# Altium integrated library Analog Devices Data Converters Analog-to-Digital Converters.IntLib: 2404 symbols (part 177 of 346)
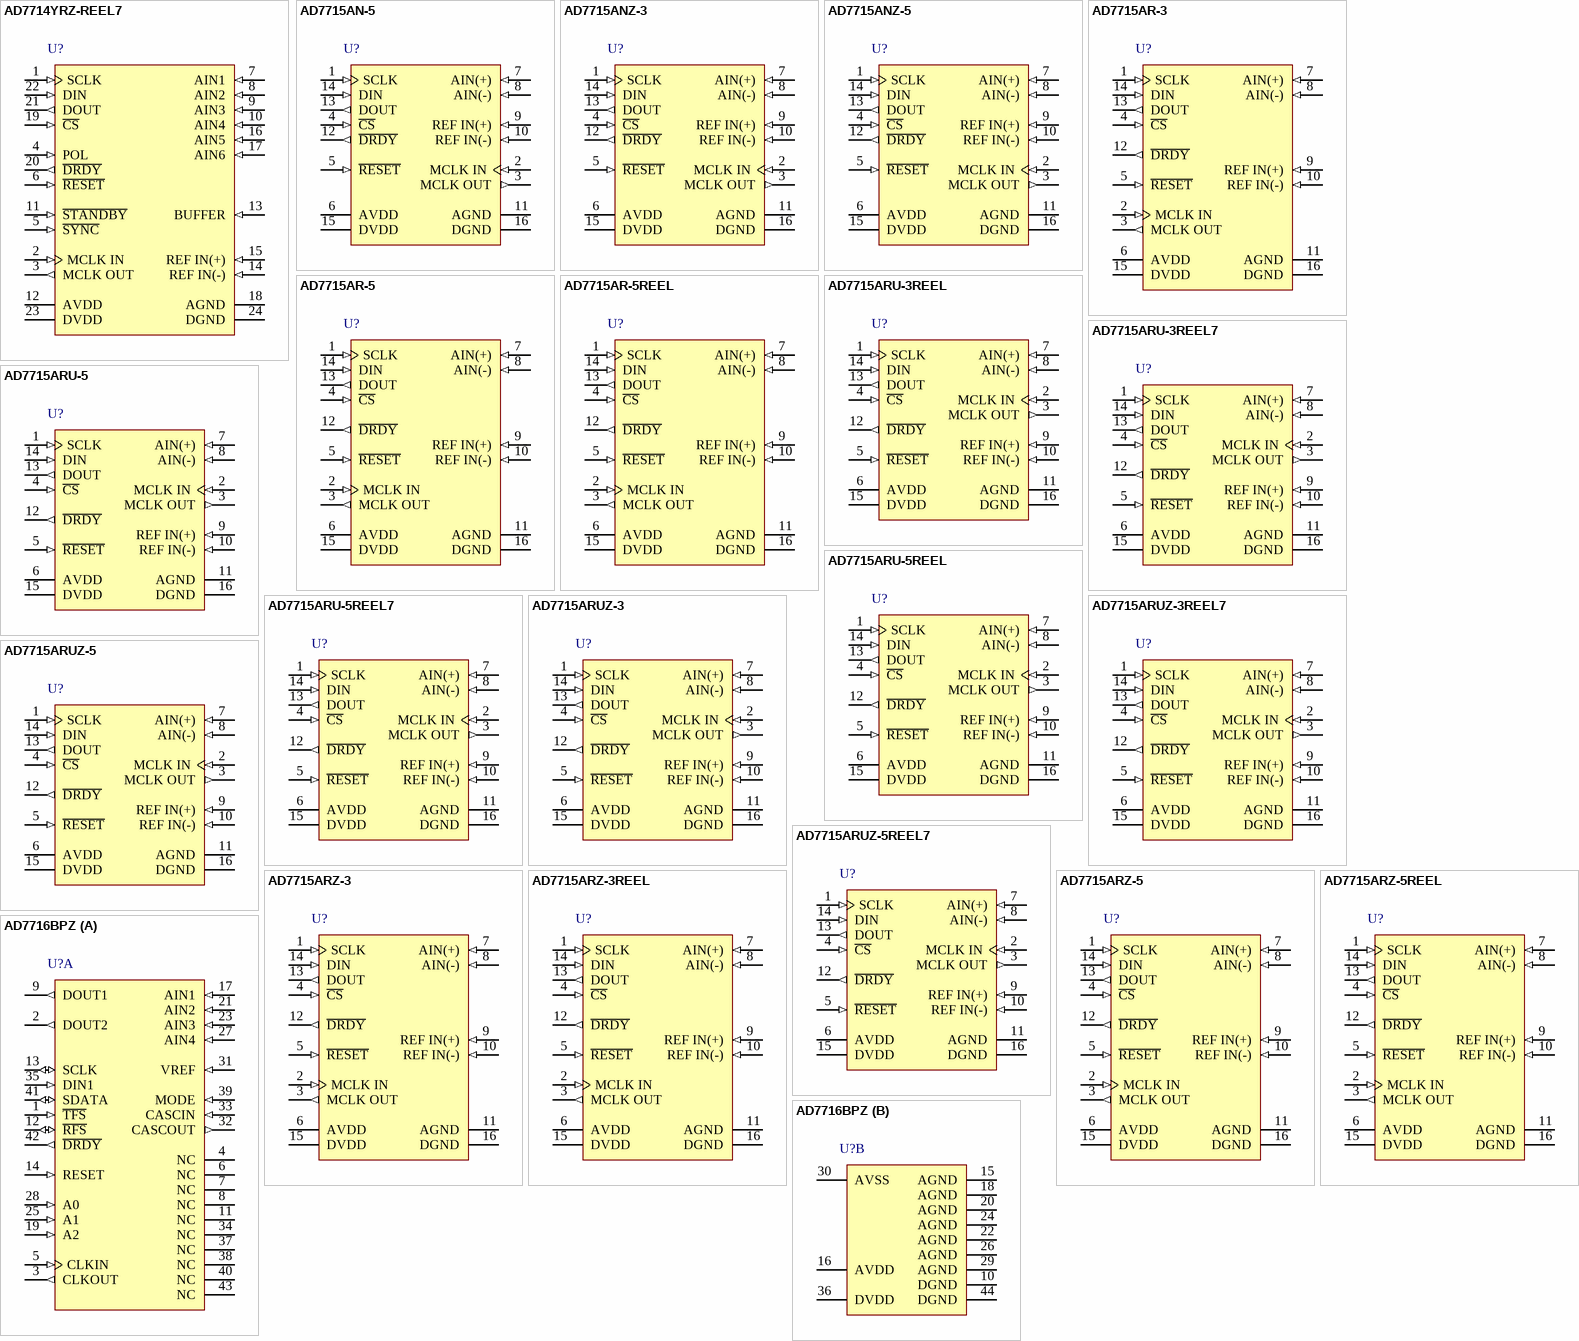
[diagram p251: symbols AD7714YRZ-REEL7 to AD7716BPZ]

## AD7715ARZ-5
designator U?
Single 16-Bit Sigma-Delta Analog-to-Digital Converter with Serial, SPI Interface, 450 uA, 5 V, 500SPS, 0 to +70 degC, RW-16, Pb-Free, Tube; Generic Part Number: AD7715; Manufacturer: Analog Devices; PartNumber: AD7715ARZ-5; Resolution (Bits): 16; Channels: 1; Throughput Rate (SPS): 500; Interface: Ser, SPI; DatasheetVersion: Rev.D; PackageVersion: 032707-B; PackageReference: RW-16; PackageDescription: 16-Lead Standard Small Outline Package [SOIC_W]; Supplier 1: Digi-Key; Supplier Part Number 1: AD7715ARZ-5-ND; Supplier 2: Farnell; Supplier Part Number 2: 1651252; Supplier 3: Newark; Supplier Part Number 3: 19M8850; Supplier 4: Mouser; Supplier Part Number 4: 584-AD7715ARZ-5; RoHS: Y; Packing: Tube; Mounting Technology: Surface Mount; Code_JEDEC: MS-013-AA; Code_IPC: SOIC127P1030-16; ComponentLink1Description: Manufacturer URL; ComponentLink1URL: http://www.analog.com/en/index.html; ComponentLink2Description: Datasheet; ComponentLink2URL: http://www.analog.com/static/imported-files/data_sheets/AD7715.pdf; ComponentLink3Description: Package Specification; ComponentLink3URL: http://www.analog.com/static/imported-files/packages/PKG_PDF/SOIC_WIDE%20%28RW%29/RW_16.pdf; ComponentLink4Description: Product URL; ComponentLink4URL: http://www.analog.com/en/analog-to-digital-converters/ad-converters/ad7715/products/product.html
footprint RW-16_N (SOIC, 16-Leads, Body 10.3x7.5mm, Pitch 1.27mm, IPC Medium Density)
footprint RW-16_L (SOIC, 16-Leads, Body 10.3x7.5mm, Pitch 1.27mm, IPC High Density)
footprint RW-16_M (SOIC, 16-Leads, Body 10.3x7.5mm, Pitch 1.27mm, IPC Low Density)
pins: 1 SCLK (in) "Serial Clock. Logic input. An external serial clock is applied to this input to access serial data from the AD7715. This serial clock can be a continuous clock with all data transmitted in a continuous train of pulses. (See Datasheet)", 2 MCLK IN (in) "Master Clock Signal for the Device. This can be provided in the form of a crystal/resonator or external clock. A crystal/resonator can be tied across the MCLK IN and MCLK OUT pins. Alternatively, the MCLK IN pin can be (See Datasheet)", 3 MCLK OUT (out) "When the master clock for the device is a crystal/resonator, the crystal/resonator is connected between MCLK IN and MCLK OUT. If an external clock is applied to MCLK IN, MCLK OUT provides an inverted clock signal. This clock (See Datasheet)", 4 ~{CS} (in) "Chip Select. Active low logic input used to select the AD7715. With this input hardwired low, the AD7715 can operate in its three-wire interface mode with SCLK, DIN, and DOUT used to interface to the device. C\S\ can be used (See Datasheet)", 5 ~{RESET} (in) "Logic Input. Active low input which resets the control logic, interface logic, calibration coefficients, digital filter, and analog modulator of the part to power-on status.", 6 AVDD (power) "Analog Positive Supply Voltage, 3.3 V nominal (AD7715-3) or 5 V nominal (AD7715-5).", 7 AIN(+) (in) "Analog Input. Positive input of the programmable gain differential analog input to the AD7715.", 8 AIN(-) (in) "Analog Input. Negative input of the programmable gain differential analog input to the AD7715.", 9 REF IN(+) (in) "Reference Input. Positive input of the differential reference input to the AD7715. The reference input is differential with the provision that REF IN(+) must be greater than REF IN(-). REF IN(+) can lie anywhere between AVDD (See Datasheet)", 10 REF IN(-) (in) "Reference Input. Negative input of the differential reference input to the AD7715. The REF IN(-) can lie anywhere between AVDD and AGND provided REF IN(+) is greater than REF IN(-).", 11 AGND (power) "Ground Reference Point for Analog Circuitry. For correct operation of the AD7715, no voltage on any of the other pins should go more than 30 mV negative with respect to AGND.", 12 ~{DRDY} (out) "Logic Output. A logic low on this output indicates that a new output word is available from the AD7715 data register. The D\R\D\Y\ pin returns high upon completion of a read operation of a full output word. If no data read (See Datasheet)", 13 DOUT (out) "Serial data output with serial data being read from the output shift register on the part. This output shift register can contain information from the setup register, communications register or data register depending on the (See Datasheet)", 14 DIN (in) "Serial data input with serial data being written to the input shift register on the part. Data from this input shift register is transferred to the setup register or communications register depending on the register (See Datasheet)", 15 DVDD (power) "Digital Supply Voltage, 3.3 V or 5 V nominal.", 16 DGND (power) "Ground reference point for digital circuitry."

## AD7715ARZ-5REEL
designator U?
Single 16-Bit Sigma-Delta Analog-to-Digital Converter with Serial, SPI Interface, 450 uA, 5 V, 500SPS, 0 to +70 degC, RW-16, Pb-Free, Reel; Generic Part Number: AD7715; Manufacturer: Analog Devices; PartNumber: AD7715ARZ-5REEL; Resolution (Bits): 16; Channels: 1; Throughput Rate (SPS): 500; Interface: Ser, SPI; DatasheetVersion: Rev.D; PackageVersion: 032707-B; PackageReference: RW-16; PackageDescription: 16-Lead Standard Small Outline Package [SOIC_W]; Supplier 1: Digi-Key; Supplier Part Number 1: AD7715ARZ-5REEL-ND; Supplier 2: Mouser; Supplier Part Number 2: 584-AD7715ARZ-5R; RoHS: Y; Packing: Reel; Mounting Technology: Surface Mount; Code_JEDEC: MS-013-AA; Code_IPC: SOIC127P1030-16; ComponentLink1Description: Manufacturer URL; ComponentLink1URL: http://www.analog.com/en/index.html; ComponentLink2Description: Datasheet; ComponentLink2URL: http://www.analog.com/static/imported-files/data_sheets/AD7715.pdf; ComponentLink3Description: Package Specification; ComponentLink3URL: http://www.analog.com/static/imported-files/packages/PKG_PDF/SOIC_WIDE%20%28RW%29/RW_16.pdf; ComponentLink4Description: Product URL; ComponentLink4URL: http://www.analog.com/en/analog-to-digital-converters/ad-converters/ad7715/products/product.html
footprint RW-16_N (SOIC, 16-Leads, Body 10.3x7.5mm, Pitch 1.27mm, IPC Medium Density)
footprint RW-16_L (SOIC, 16-Leads, Body 10.3x7.5mm, Pitch 1.27mm, IPC High Density)
footprint RW-16_M (SOIC, 16-Leads, Body 10.3x7.5mm, Pitch 1.27mm, IPC Low Density)
pins: 1 SCLK (in) "Serial Clock. Logic input. An external serial clock is applied to this input to access serial data from the AD7715. This serial clock can be a continuous clock with all data transmitted in a continuous train of pulses. (See Datasheet)", 2 MCLK IN (in) "Master Clock Signal for the Device. This can be provided in the form of a crystal/resonator or external clock. A crystal/resonator can be tied across the MCLK IN and MCLK OUT pins. Alternatively, the MCLK IN pin can be (See Datasheet)", 3 MCLK OUT (out) "When the master clock for the device is a crystal/resonator, the crystal/resonator is connected between MCLK IN and MCLK OUT. If an external clock is applied to MCLK IN, MCLK OUT provides an inverted clock signal. This clock (See Datasheet)", 4 ~{CS} (in) "Chip Select. Active low logic input used to select the AD7715. With this input hardwired low, the AD7715 can operate in its three-wire interface mode with SCLK, DIN, and DOUT used to interface to the device. C\S\ can be used (See Datasheet)", 5 ~{RESET} (in) "Logic Input. Active low input which resets the control logic, interface logic, calibration coefficients, digital filter, and analog modulator of the part to power-on status.", 6 AVDD (power) "Analog Positive Supply Voltage, 3.3 V nominal (AD7715-3) or 5 V nominal (AD7715-5).", 7 AIN(+) (in) "Analog Input. Positive input of the programmable gain differential analog input to the AD7715.", 8 AIN(-) (in) "Analog Input. Negative input of the programmable gain differential analog input to the AD7715.", 9 REF IN(+) (in) "Reference Input. Positive input of the differential reference input to the AD7715. The reference input is differential with the provision that REF IN(+) must be greater than REF IN(-). REF IN(+) can lie anywhere between AVDD (See Datasheet)", 10 REF IN(-) (in) "Reference Input. Negative input of the differential reference input to the AD7715. The REF IN(-) can lie anywhere between AVDD and AGND provided REF IN(+) is greater than REF IN(-).", 11 AGND (power) "Ground Reference Point for Analog Circuitry. For correct operation of the AD7715, no voltage on any of the other pins should go more than 30 mV negative with respect to AGND.", 12 ~{DRDY} (out) "Logic Output. A logic low on this output indicates that a new output word is available from the AD7715 data register. The D\R\D\Y\ pin returns high upon completion of a read operation of a full output word. If no data read (See Datasheet)", 13 DOUT (out) "Serial data output with serial data being read from the output shift register on the part. This output shift register can contain information from the setup register, communications register or data register depending on the (See Datasheet)", 14 DIN (in) "Serial data input with serial data being written to the input shift register on the part. Data from this input shift register is transferred to the setup register or communications register depending on the register (See Datasheet)", 15 DVDD (power) "Digital Supply Voltage, 3.3 V or 5 V nominal.", 16 DGND (power) "Ground reference point for digital circuitry."

## AD7716BPZ
designator U?
LC2MOS 22-Bit Data Acquisition System, 2.2KSPS, -40 to +85 degC, P-44A, Pb-Free, Tube; Generic Part Number: AD7716; Manufacturer: Analog Devices; PartNumber: AD7716BPZ; Resolution (Bits): 22; Channels: 4; Throughput Rate (SPS): 2.2K; Interface: Ser; DatasheetVersion: Rev.A; PackageVersion: 2003; PackageReference: P-44A; PackageDescription: 44-Lead Plastic Leaded Chip Carrier [PLCC]; Supplier 1: Digi-Key; Supplier Part Number 1: AD7716BPZ-ND; Supplier 2: Newark; Supplier Part Number 2: 12M8929; Supplier 3: Mouser; Supplier Part Number 3: 584-AD7716BPZ; RoHS: Y; Packing: Tube; Mounting Technology: Surface Mount; Code_JEDEC: MO-047-AC; Code_IPC: PLCC-44; ComponentLink1Description: Manufacturer URL; ComponentLink1URL: http://www.analog.com/en/index.html; ComponentLink2Description: Datasheet; ComponentLink2URL: http://www.analog.com/static/imported-files/data_sheets/AD7716.pdf; ComponentLink3Description: Package Specification; ComponentLink3URL: http://www.analog.com/static/imported-files/packages/533756178731793364534243243792136664964P44A.pdf; ComponentLink4Description: Product URL; ComponentLink4URL: http://www.analog.com/en/analog-to-digital-converters/ad-converters/ad7716/products/product.html
footprint P-44A_N (Leaded Chip Carrier, 44-Leads, Body 16.6x16.6mm, Pitch 1.27mm, IPC Medium Density)
footprint P-44A_L (Leaded Chip Carrier, 44-Leads, Body 16.6x16.6mm, Pitch 1.27mm, IPC High Density)
footprint P-44A_M (Leaded Chip Carrier, 44-Leads, Body 16.6x16.6mm, Pitch 1.27mm, IPC Low Density)
part A pins: 1 ~{TFS} (in) "Transmit Frame Sync input for programming the on-chip Control Register.", 2 DOUT2 (out) "Digital Outputs. These two digital outputs can be programmed from the on-chip Control Register. They can be used to control calibration signals at the front end.", 3 CLKOUT (out) "Clock Output which is used to generate an internal master clock by connecting a crystal between CLKOUT and CLKIN. If an external clock is used then CLKOUT is not connected.", 4 NC "No connect", 5 CLKIN (in) "Clock Input for External Clock.", 6 NC "No connect", 7 NC "No connect", 8 NC "No connect", 9 DOUT1 (out) "Digital Outputs. These two digital outputs can be programmed from the on-chip Control Register. They can be used to control calibration signals at the front end.", 11 NC "No connect", 12 ~{RFS} (io) "Receive Frame Synchronization signal for the serial output data stream. This can be an input or output depending on the interface mode.", 13 SCLK (io) "Serial Clock Input/Output. The SCLK pin is configured as an input or output, depending on the state of the Mode pin.", 14 RESET (in) "A high pulse on this input pin synchronizes the sampling point on the four input channels. It can be used in a multichannel system to ensure simultaneous sampling. This also resets the digital interface to a known state.", 17 AIN1 (in) "Analog Input Pins. The analog input range is +/-2.5 V.", 19 A2 (in) "The three address input pins, A0, A1 and A2 give the device a unique address. This information is contained in the output data stream from the device.", 21 AIN2 (in) "Analog Input Pins. The analog input range is +/-2.5 V.", 23 AIN3 (in) "Analog Input Pins. The analog input range is +/-2.5 V.", 25 A1 (in) "The three address input pins, A0, A1 and A2 give the device a unique address. This information is contained in the output data stream from the device.", 27 AIN4 (in) "Analog Input Pins. The analog input range is +/-2.5 V.", 28 A0 (in) "The three address input pins, A0, A1 and A2 give the device a unique address. This information is contained in the output data stream from the device.", 31 VREF (in) "Reference Input, Nominally 2.5 V.", 32 CASCOUT (out) "Digital output which goes high at the end of a complete 4-channel data transfer. This can be connected to the CASCIN of the next device in a multichannel system to ensure proper control of the data transfer.", 33 CASCIN (in) "This is an active-high, level-triggered digital input which is used to enable the output data stream. This input may be used to cascade several devices in a multichannel system.", 34 NC "No connect", 35 DIN1 (in) "Digital Data Input. This is contained in the digital data stream sent from the device.", 37 NC "No connect", 38 NC "No connect", 39 MODE (in) "This digital input determines the device interface mode. If it is hardwired low, then the Master Mode interface is enabled whereas if it is high, the Slave Mode interface is enabled.", 40 NC "No connect", 41 SDATA (io) "Serial Data Input/Output Pin.", 42 ~{DRDY} (out) "Data Ready Output. A falling edge indicates that a new word is available for transmission. It will return high when 4, 32-bit words have been transmitted. It also goes high for one clock cycle, when a new word is being (See Datasheet)", 43 NC "No connect"
part B pins: 10 DGND (power) "Digital Ground. Ground return for digital circuitry.", 15 AGND (power) "Analog Ground. Ground reference for analog circuitry.", 16 AVDD (power) "Analog Positive Supply, +5 V Nominal. This supplies +ve power to the analog modulators. AVDD & DVDD must be tied together externally.", 18 AGND (power) "Analog Ground. Ground reference for analog circuitry.", 20 AGND (power) "Analog Ground. Ground reference for analog circuitry.", 22 AGND (power) "Analog Ground. Ground reference for analog circuitry.", 24 AGND (power) "Analog Ground. Ground reference for analog circuitry.", 26 AGND (power) "Analog Ground. Ground reference for analog circuitry.", 29 AGND (power) "Analog Ground. Ground reference for analog circuitry.", 30 AVSS (power) "Analog Negative Supply, -5 V nominal. This supplies -ve power to the analog modulators.", 36 DVDD (power) "Digital Positive Supply, +5 V Nominal. This supplies +ve power to the digital filter and input/output registers.", 44 DGND (power) "Digital Ground. Ground return for digital circuitry."

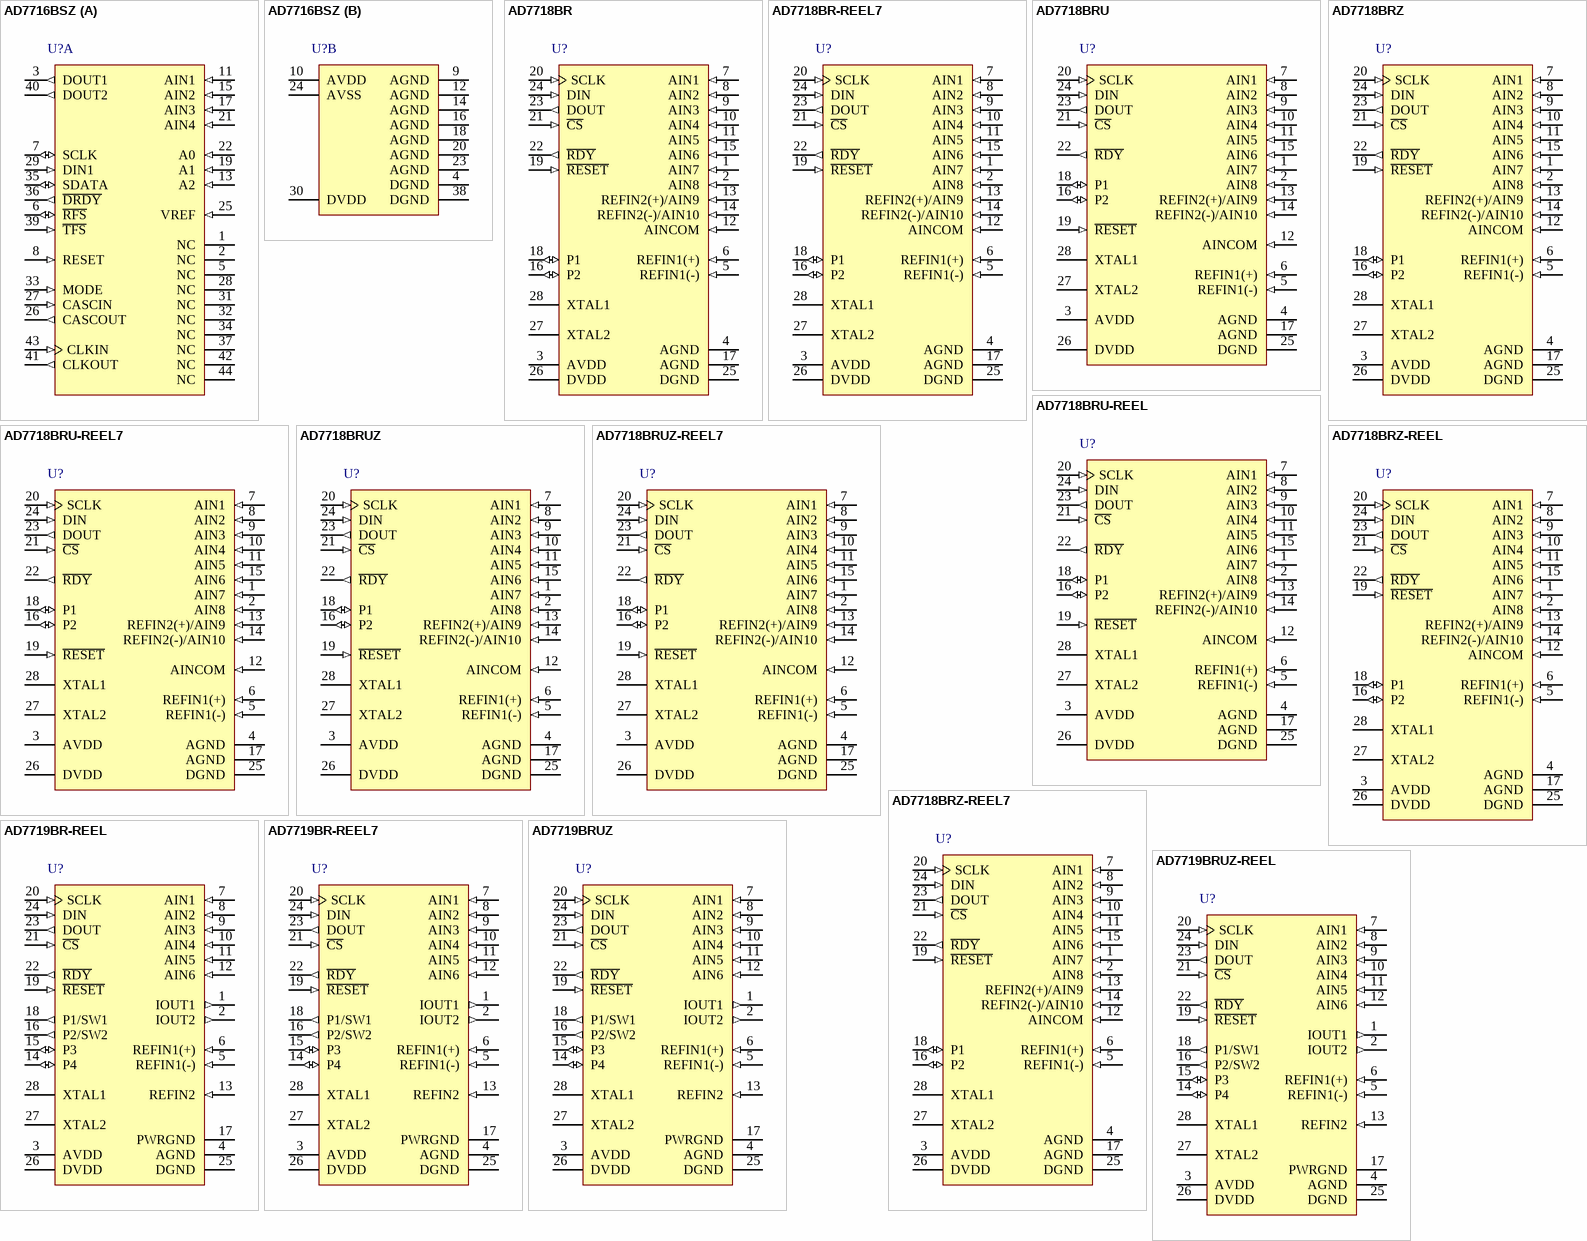
[diagram p54: symbols AD7716BSZ to AD7719BRUZ-REEL]

## AD7716BSZ
designator U?
LC2MOS 22-Bit Data Acquisition System, 2.2KSPS, -40 to +85 degC, S-44-2, Pb-Free, Tray; Generic Part Number: AD7716; Manufacturer: Analog Devices; PartNumber: AD7716BSZ; Resolution (Bits): 22; Channels: 4; Throughput Rate (SPS): 2.2K; Interface: Ser; DatasheetVersion: Rev.A; PackageVersion: 041807-A; PackageReference: S-44-2; PackageDescription: 44-Lead Metric Quad Flat Package [MQFP]; Supplier 1: Digi-Key; Supplier Part Number 1: AD7716BSZ-ND; Supplier 2: Farnell; Supplier Part Number 2: 2305731; Supplier 3: Newark; Supplier Part Number 3: 84W7438; Supplier 4: Newark; Supplier Part Number 4: 59K5349; Supplier 5: Mouser; Supplier Part Number 5: 584-AD7716BSZ; RoHS: Y; Packing: Tray; Mounting Technology: Surface Mount; Code_JEDEC: MO-122-AA-1; ComponentLink1Description: Manufacturer URL; ComponentLink1URL: http://www.analog.com/en/index.html; ComponentLink2Description: Datasheet; ComponentLink2URL: http://www.analog.com/static/imported-files/data_sheets/AD7716.pdf; ComponentLink3Description: Package Specification; ComponentLink3URL: http://www.analog.com/static/imported-files/packages/209183S_44_2.pdf; ComponentLink4Description: Product URL; ComponentLink4URL: http://www.analog.com/en/analog-to-digital-converters/ad-converters/ad7716/products/product.html
footprint S-44-2_N (QFP, 44-Leads, Body 10x10mm, Pitch 0.8mm, IPC Medium Density)
footprint S-44-2_L (QFP, 44-Leads, Body 10x10mm, Pitch 0.8mm, IPC High Density)
footprint S-44-2_M (QFP, 44-Leads, Body 10x10mm, Pitch 0.8mm, IPC Low Density)
part A pins: 1 NC "No connect", 2 NC "No connect", 3 DOUT1 (out) "Digital Outputs.  These two digital outputs can be programmed from the on-chip Control Register.  They can be used to control calibration signals at the front end.", 5 NC "No connect", 6 ~{RFS} (io) "Receive Frame Synchronization signal for the serial output data stream.  This can be an input or output depending on the interface mode.", 7 SCLK (io) "Serial Clock Input/Output.  The SCLK pin is configured as an input or output, depending on the state of the Mode pin.", 8 RESET (in) "A high pulse on this input pin synchronizes the sampling point on the four input channels.  It can be used in a multichannel system to ensure simultaneous sampling.  This also resets the digital interface to a known state.", 11 AIN1 (in) "Analog Input Pins.  The analog input range is +/-2.5 V.", 13 A2 (in) "The three address input pins, A0, A1 and A2 give the device a unique address.  This information is contained in the output data stream from the device.", 15 AIN2 (in) "Analog Input Pins.  The analog input range is +/-2.5 V.", 17 AIN3 (in) "Analog Input Pins.  The analog input range is +/-2.5 V.", 19 A1 (in) "The three address input pins, A0, A1 and A2 give the device a unique address.  This information is contained in the output data stream from the device.", 21 AIN4 (in) "Analog Input Pins.  The analog input range is +/-2.5 V.", 22 A0 (in) "The three address input pins, A0, A1 and A2 give the device a unique address.  This information is contained in the output data stream from the device.", 25 VREF (in) "Reference Input, Nominally 2.5 V.", 26 CASCOUT (out) "Digital output which goes high at the end of a complete 4-channel data transfer.  This can be connected to the CASCIN of the next device in a multichannel system to ensure proper control of the data transfer.", 27 CASCIN (in) "This is an active-high, level-triggered digital input which is used to enable the output data stream.  This input may be used to cascade several devices in a multichannel system.", 28 NC "No connect", 29 DIN1 (in) "Digital Data Input.  This is contained in the digital data stream sent from the device.", 31 NC "No connect", 32 NC "No connect", 33 MODE (in) "This digital input determines the device interface mode.  If it is hardwired low, then the Master Mode interface is enabled whereas if it is high, the Slave Mode interface is enabled.", 34 NC "No connect", 35 SDATA (io) "Serial Data Input/Output Pin.", 36 ~{DRDY} (out) "Data Ready Output.  A falling edge indicates that a new word is available for transmission.  It will return high when 4, 32-bit words have been transmitted.  It also goes high for one clock cycle, when a new word is being (See Datasheet)", 37 NC "No connect", 39 ~{TFS} (in) "Transmit Frame Sync input for programming the on-chip Control Register.", 40 DOUT2 (out) "Digital Outputs.  These two digital outputs can be programmed from the on-chip Control Register.  They can be used to control calibration signals at the front end.", 41 CLKOUT (out) "Clock Output which is used to generate an internal master clock by connecting a crystal between CLKOUT and CLKIN.  If an external clock is used then CLKOUT is not connected.", 42 NC "No connect", 43 CLKIN (in) "Clock Input for External Clock.", 44 NC "No connect"
part B pins: 4 DGND (power) "Digital Ground.  Ground return for digital circuitry.", 9 AGND (power) "Analog Ground.  Ground reference for analog circuitry.", 10 AVDD (power) "Analog Positive Supply, +5 V Nominal.  This supplies +ve power to the analog modulators. AVDD & DVDD must be tied together externally.", 12 AGND (power) "Analog Ground.  Ground reference for analog circuitry.", 14 AGND (power) "Analog Ground.  Ground reference for analog circuitry.", 16 AGND (power) "Analog Ground.  Ground reference for analog circuitry.", 18 AGND (power) "Analog Ground.  Ground reference for analog circuitry.", 20 AGND (power) "Analog Ground.  Ground reference for analog circuitry.", 23 AGND (power) "Analog Ground.  Ground reference for analog circuitry.", 24 AVSS (power) "Analog Negative Supply, -5 V nominal.  This supplies -ve power to the analog modulators.", 30 DVDD (power) "Digital Positive Supply, +5 V Nominal.  This supplies +ve power to the digital filter and input/output registers.", 38 DGND (power) "Digital Ground.  Ground return for digital circuitry."

## AD7718BR
designator U?
10 Channel 24-Bit Low Power Sigma-Delta Analog-to-Digital Converter with Serial, SPI Interface, 1.365KSPS, -40 to +85 degC, RW-28, Tube; Generic Part Number: AD7718; Manufacturer: Analog Devices; PartNumber: AD7718BR; Resolution (Bits): 24; Channels: 10; Throughput Rate (SPS): 1.365K; Interface: Ser, SPI; DatasheetVersion: Rev.0; PackageVersion: 060706-A; PackageReference: RW-28; PackageDescription: 28-Lead Standard Small Outline Package [SOIC_W]; Supplier 1: Digi-Key; Supplier Part Number 1: AD7718BR-ND; RoHS: N; Packing: Tube; Mounting Technology: Surface Mount; Code_JEDEC: MS-013-AE; ComponentLink1Description: Manufacturer URL; ComponentLink1URL: http://www.analog.com/en/index.html; ComponentLink2Description: Datasheet; ComponentLink2URL: http://www.analog.com/static/imported-files/data_sheets/AD7708_7718.pdf; ComponentLink3Description: Package Specification; ComponentLink3URL: http://www.analog.com/static/imported-files/packages/35833120341221RW_28.pdf; ComponentLink4Description: Product URL; ComponentLink4URL: http://www.analog.com/en/analog-to-digital-converters/ad-converters/ad7718/products/product.html
footprint RW-28_N (SOIC, 28-Leads, Body 17.9x7.5mm, Pitch 1.27mm, IPC Medium Density)
footprint RW-28_L (SOIC, 28-Leads, Body 17.9x7.5mm, Pitch 1.27mm, IPC High Density)
footprint RW-28_M (SOIC, 28-Leads, Body 17.9x7.5mm, Pitch 1.27mm, IPC Low Density)
pins: 1 AIN7 (in) "Analog Input Channel 7. Programmable-gain analog input that can be used as a pseudodifferential input when used with AINCOM, or as the positive input of a fully-differential input pair when used with AIN8. (See ADC Control (See Datasheet)", 2 AIN8 (in) "Analog Input Channel 8. Programmable-gain analog input that can be used as a pseudodifferential input when used with AINCOM, or as the negative input of a fully-differential input pair when used with AIN7. (See ADC Control (See Datasheet)", 3 AVDD (power) "Analog Supply Voltage", 4 AGND (power) "Analog Ground", 5 REFIN1(-) (in) "Negative Reference Input. This reference input can lie anywhere between AGND and AVDD - 1 V.", 6 REFIN1(+) (in) "Positive reference input. REFIN(+) can lie anywhere between AVDD and AGND. The nominal reference voltage [REFIN(+)-REFIN(-)] is 2.5 V but the part is functional with a reference range from 1 V to AVDD.", 7 AIN1 (in) "Analog Input Channel 1. Programmable-gain analog input that can be used as a pseudodifferential input when used with AINCOM, or as the positive input of a fully-differential input pair when used with AIN2. (See ADC Control (See Datasheet)", 8 AIN2 (in) "Analog Input Channel 2. Programmable-gain analog input that can be used as a pseudodifferential input when used with AINCOM, or as the negative input of a fully-differential input pair when used with AIN1. (See ADC Control (See Datasheet)", 9 AIN3 (in) "Analog Input Channel 3. Programmable-gain analog input that can be used as a pseudodifferential input when used with AINCOM, or as the positive input of a fully-differential input pair when used with AIN4. (See ADC Control (See Datasheet)", 10 AIN4 (in) "Analog Input Channel 4. Programmable-gain analog input that can be used as a pseudodifferential input when used with AINCOM, or as the negative input of a fully-differential input pair when used with AIN3. (See ADC Control (See Datasheet)", 11 AIN5 (in) "Analog Input Channel 5. Programmable-gain analog input that can be used as a pseudodifferential input when used with AINCOM, or as the positive input of a fully-differential input pair when used with AIN6. (See ADC Control (See Datasheet)", 12 AINCOM (in) "All analog inputs are referenced to this input when configured in pseudo-differential input mode.", 13 REFIN2(+)/AIN9 (in) "Positive reference input/analog input. This input can be configured as a reference input with the same characteristics as REFIN1(+) or as an additional analog input. When configured as an analog input this pin provides a (See Datasheet)", 14 REFIN2(-)/AIN10 (in) "Negative reference input/analog input. This pin can be configured as a reference or analog input. When configured as a reference input it provides the negative reference input for REFIN2. When configured as an analog input (See Datasheet)", 15 AIN6 (in) "Analog Input Channel 6. Programmable-gain analog input that can be used as a pseudodifferential input when used with AINCOM, or as the negative input of a fully-differential input pair when used with AIN5. (See ADC Control (See Datasheet)", 16 P2 (io) "P2 can act as a general-purpose Input/Output bit referenced between AVDD and AGND. There is a weak pull-up to AVDD internally on this pin.", 17 AGND (power) "It is recommended that this pin be tied directly to AGND.", 18 P1 (io) "P1 can act as a general-purpose Input/Output bit referenced between AVDD and AGND. There is a weak pull-up to AVDD internally on this pin.", 19 ~{RESET} (in) "Digital input used to reset the ADC to its power-on-reset status. This pin has a weak pull-up internally to DVDD.", 20 SCLK (in) "Serial clock input for data transfers to and from the ADC. The SCLK has a Schmitt-trigger input making an opto-isolated interface more robust. The serial clock can be continuous with all data transmitted in a continuous (See Datasheet)", 21 ~{CS} (in) "Chip Select Input. This is an active low logic input used to select the AD7708/AD7718. C\S\ can be used to select the AD7708/AD7718 in systems with more than one device on the serial bus or as a frame synchronization signal (See Datasheet)", 22 ~{RDY} (out) "R\D\Y\ is a logic low status output from the AD7708/AD7718. R\D\Y\ is low when valid data exists in the data register for the selected channel. This output returns high on completion of a read operation from the data (See Datasheet)", 23 DOUT (out) "Serial data output with serial data being read from the output shift register of the ADC. The output shift register can contain data from any of the on-chip data, calibration or control registers.", 24 DIN (in) "Serial Data Input with serial data being written to the input shift register on the AD7708/AD7718 Data in this shift register is transferred to the calibration or control registers within the ADC depending on the selection (See Datasheet)", 25 DGND (power) "Ground Reference Point for the Digital Circuitry.", 26 DVDD (power) "Digital Supply Voltage, 3 V or 5 V Nominal.", 27 XTAL2 "Output from the 32 kHz Crystal Oscillator or Resonator Inverter.", 28 XTAL1 "Input to the 32 kHz Crystal Oscillator or Resonator Inverter."

## AD7718BR-REEL7
designator U?
10 Channel 24-Bit Low Power Sigma-Delta Analog-to-Digital Converter with Serial, SPI Interface, 1.365KSPS, -40 to +85 degC, RW-28, Reel; Generic Part Number: AD7718; Manufacturer: Analog Devices; PartNumber: AD7718BR-REEL7; Resolution (Bits): 24; Channels: 10; Throughput Rate (SPS): 1.365K; Interface: Ser, SPI; DatasheetVersion: Rev.0; PackageVersion: 060706-A; PackageReference: RW-28; PackageDescription: 28-Lead Standard Small Outline Package [SOIC_W]; Supplier 1: Mouser; Supplier Part Number 1: N/A; RoHS: N; Packing: Reel; Mounting Technology: Surface Mount; Code_JEDEC: MS-013-AE; ComponentLink1Description: Manufacturer URL; ComponentLink1URL: http://www.analog.com/en/index.html; ComponentLink2Description: Datasheet; ComponentLink2URL: http://www.analog.com/static/imported-files/data_sheets/AD7708_7718.pdf; ComponentLink3Description: Package Specification; ComponentLink3URL: http://www.analog.com/static/imported-files/packages/35833120341221RW_28.pdf; ComponentLink4Description: Product URL; ComponentLink4URL: http://www.analog.com/en/analog-to-digital-converters/ad-converters/ad7718/products/product.html
footprint RW-28_N (SOIC, 28-Leads, Body 17.9x7.5mm, Pitch 1.27mm, IPC Medium Density)
footprint RW-28_L (SOIC, 28-Leads, Body 17.9x7.5mm, Pitch 1.27mm, IPC High Density)
footprint RW-28_M (SOIC, 28-Leads, Body 17.9x7.5mm, Pitch 1.27mm, IPC Low Density)
pins: 1 AIN7 (in) "Analog Input Channel 7. Programmable-gain analog input that can be used as a pseudodifferential input when used with AINCOM, or as the positive input of a fully-differential input pair when used with AIN8. (See ADC Control (See Datasheet)", 2 AIN8 (in) "Analog Input Channel 8. Programmable-gain analog input that can be used as a pseudodifferential input when used with AINCOM, or as the negative input of a fully-differential input pair when used with AIN7. (See ADC Control (See Datasheet)", 3 AVDD (power) "Analog Supply Voltage", 4 AGND (power) "Analog Ground", 5 REFIN1(-) (in) "Negative Reference Input. This reference input can lie anywhere between AGND and AVDD - 1 V.", 6 REFIN1(+) (in) "Positive reference input. REFIN(+) can lie anywhere between AVDD and AGND. The nominal reference voltage [REFIN(+)-REFIN(-)] is 2.5 V but the part is functional with a reference range from 1 V to AVDD.", 7 AIN1 (in) "Analog Input Channel 1. Programmable-gain analog input that can be used as a pseudodifferential input when used with AINCOM, or as the positive input of a fully-differential input pair when used with AIN2. (See ADC Control (See Datasheet)", 8 AIN2 (in) "Analog Input Channel 2. Programmable-gain analog input that can be used as a pseudodifferential input when used with AINCOM, or as the negative input of a fully-differential input pair when used with AIN1. (See ADC Control (See Datasheet)", 9 AIN3 (in) "Analog Input Channel 3. Programmable-gain analog input that can be used as a pseudodifferential input when used with AINCOM, or as the positive input of a fully-differential input pair when used with AIN4. (See ADC Control (See Datasheet)", 10 AIN4 (in) "Analog Input Channel 4. Programmable-gain analog input that can be used as a pseudodifferential input when used with AINCOM, or as the negative input of a fully-differential input pair when used with AIN3. (See ADC Control (See Datasheet)", 11 AIN5 (in) "Analog Input Channel 5. Programmable-gain analog input that can be used as a pseudodifferential input when used with AINCOM, or as the positive input of a fully-differential input pair when used with AIN6. (See ADC Control (See Datasheet)", 12 AINCOM (in) "All analog inputs are referenced to this input when configured in pseudo-differential input mode.", 13 REFIN2(+)/AIN9 (in) "Positive reference input/analog input. This input can be configured as a reference input with the same characteristics as REFIN1(+) or as an additional analog input. When configured as an analog input this pin provides a (See Datasheet)", 14 REFIN2(-)/AIN10 (in) "Negative reference input/analog input. This pin can be configured as a reference or analog input. When configured as a reference input it provides the negative reference input for REFIN2. When configured as an analog input (See Datasheet)", 15 AIN6 (in) "Analog Input Channel 6. Programmable-gain analog input that can be used as a pseudodifferential input when used with AINCOM, or as the negative input of a fully-differential input pair when used with AIN5. (See ADC Control (See Datasheet)", 16 P2 (io) "P2 can act as a general-purpose Input/Output bit referenced between AVDD and AGND. There is a weak pull-up to AVDD internally on this pin.", 17 AGND (power) "It is recommended that this pin be tied directly to AGND.", 18 P1 (io) "P1 can act as a general-purpose Input/Output bit referenced between AVDD and AGND. There is a weak pull-up to AVDD internally on this pin.", 19 ~{RESET} (in) "Digital input used to reset the ADC to its power-on-reset status. This pin has a weak pull-up internally to DVDD.", 20 SCLK (in) "Serial clock input for data transfers to and from the ADC. The SCLK has a Schmitt-trigger input making an opto-isolated interface more robust. The serial clock can be continuous with all data transmitted in a continuous (See Datasheet)", 21 ~{CS} (in) "Chip Select Input. This is an active low logic input used to select the AD7708/AD7718. C\S\ can be used to select the AD7708/AD7718 in systems with more than one device on the serial bus or as a frame synchronization signal (See Datasheet)", 22 ~{RDY} (out) "R\D\Y\ is a logic low status output from the AD7708/AD7718. R\D\Y\ is low when valid data exists in the data register for the selected channel. This output returns high on completion of a read operation from the data (See Datasheet)", 23 DOUT (out) "Serial data output with serial data being read from the output shift register of the ADC. The output shift register can contain data from any of the on-chip data, calibration or control registers.", 24 DIN (in) "Serial Data Input with serial data being written to the input shift register on the AD7708/AD7718 Data in this shift register is transferred to the calibration or control registers within the ADC depending on the selection (See Datasheet)", 25 DGND (power) "Ground Reference Point for the Digital Circuitry.", 26 DVDD (power) "Digital Supply Voltage, 3 V or 5 V Nominal.", 27 XTAL2 "Output from the 32 kHz Crystal Oscillator or Resonator Inverter.", 28 XTAL1 "Input to the 32 kHz Crystal Oscillator or Resonator Inverter."

## AD7718BRU
designator U?
10 Channel 24-Bit Low Power Sigma-Delta Analog-to-Digital Converter with Serial, SPI Interface, 1.365KSPS, -40 to +85 degC, RU-28, Tube; Generic Part Number: AD7718; Manufacturer: Analog Devices; PartNumber: AD7718BRU; Resolution (Bits): 24; Channels: 10; Throughput Rate (SPS): 1.365K; Interface: Ser, SPI; DatasheetVersion: Rev.0; PackageVersion: 2005; PackageReference: RU-28; PackageDescription: 28-Lead Thin Shrink Small Outline Package [TSSOP]; Supplier 1: Digi-Key; Supplier Part Number 1: AD7718BRU-ND; Supplier 2: Mouser; Supplier Part Number 2: 584-AD7718BRU; RoHS: N; Packing: Tube; Mounting Technology: Surface Mount; Code_JEDEC: MO-153-AE; ComponentLink1Description: Manufacturer URL; ComponentLink1URL: http://www.analog.com/en/index.html; ComponentLink2Description: Datasheet; ComponentLink2URL: http://www.analog.com/static/imported-files/data_sheets/AD7708_7718.pdf; ComponentLink3Description: Package Specification; ComponentLink3URL: http://www.analog.com/static/imported-files/packages/249854663RU_28.pdf; ComponentLink4Description: Product URL; ComponentLink4URL: http://www.analog.com/en/analog-to-digital-converters/ad-converters/ad7718/products/product.html
footprint RU-28_N (TSOP, 28-Leads, Body 9.7x4.4mm, Pitch 0.65mm, IPC Medium Density)
footprint RU-28_L (TSOP, 28-Leads, Body 9.7x4.4mm, Pitch 0.65mm, IPC High Density)
footprint RU-28_M (TSOP, 28-Leads, Body 9.7x4.4mm, Pitch 0.65mm, IPC Low Density)
pins: 1 AIN7 (in) "Analog Input Channel 7. Programmable-gain analog input that can be used as a pseudodifferential input when used with AINCOM, or as the positive input of a fully-differential input pair when used with AIN8. (See ADC Control (See Datasheet)", 2 AIN8 (in) "Analog Input Channel 8. Programmable-gain analog input that can be used as a pseudodifferential input when used with AINCOM, or as the negative input of a fully-differential input pair when used with AIN7. (See ADC Control (See Datasheet)", 3 AVDD (power) "Analog Supply Voltage", 4 AGND (power) "Analog Ground", 5 REFIN1(-) (in) "Negative Reference Input. This reference input can lie anywhere between AGND and AVDD - 1 V.", 6 REFIN1(+) (in) "Positive reference input. REFIN(+) can lie anywhere between AVDD and AGND. The nominal reference voltage [REFIN(+)-REFIN(-)] is 2.5 V but the part is functional with a reference range from 1 V to AVDD.", 7 AIN1 (in) "Analog Input Channel 1. Programmable-gain analog input that can be used as a pseudodifferential input when used with AINCOM, or as the positive input of a fully-differential input pair when used with AIN2. (See ADC Control (See Datasheet)", 8 AIN2 (in) "Analog Input Channel 2. Programmable-gain analog input that can be used as a pseudodifferential input when used with AINCOM, or as the negative input of a fully-differential input pair when used with AIN1. (See ADC Control (See Datasheet)", 9 AIN3 (in) "Analog Input Channel 3. Programmable-gain analog input that can be used as a pseudodifferential input when used with AINCOM, or as the positive input of a fully-differential input pair when used with AIN4. (See ADC Control (See Datasheet)", 10 AIN4 (in) "Analog Input Channel 4. Programmable-gain analog input that can be used as a pseudodifferential input when used with AINCOM, or as the negative input of a fully-differential input pair when used with AIN3. (See ADC Control (See Datasheet)", 11 AIN5 (in) "Analog Input Channel 5. Programmable-gain analog input that can be used as a pseudodifferential input when used with AINCOM, or as the positive input of a fully-differential input pair when used with AIN6. (See ADC Control (See Datasheet)", 12 AINCOM (in) "All analog inputs are referenced to this input when configured in pseudo-differential input mode.", 13 REFIN2(+)/AIN9 (in) "Positive reference input/analog input. This input can be configured as a reference input with the same characteristics as REFIN1(+) or as an additional analog input. When configured as an analog input this pin provides a (See Datasheet)", 14 REFIN2(-)/AIN10 (in) "Negative reference input/analog input. This pin can be configured as a reference or analog input. When configured as a reference input it provides the negative reference input for REFIN2. When configured as an analog input (See Datasheet)", 15 AIN6 (in) "Analog Input Channel 6. Programmable-gain analog input that can be used as a pseudodifferential input when used with AINCOM, or as the negative input of a fully-differential input pair when used with AIN5. (See ADC Control (See Datasheet)", 16 P2 (io) "P2 can act as a general-purpose Input/Output bit referenced between AVDD and AGND. There is a weak pull-up to AVDD internally on this pin.", 17 AGND (power) "It is recommended that this pin be tied directly to AGND.", 18 P1 (io) "P1 can act as a general-purpose Input/Output bit referenced between AVDD and AGND. There is a weak pull-up to AVDD internally on this pin.", 19 ~{RESET} (in) "Digital input used to reset the ADC to its power-on-reset status. This pin has a weak pull-up internally to DVDD.", 20 SCLK (in) "Serial clock input for data transfers to and from the ADC. The SCLK has a Schmitt-trigger input making an opto-isolated interface more robust. The serial clock can be continuous with all data transmitted in a continuous (See Datasheet)", 21 ~{CS} (in) "Chip Select Input. This is an active low logic input used to select the AD7708/AD7718. C\S\ can be used to select the AD7708/AD7718 in systems with more than one device on the serial bus or as a frame synchronization signal (See Datasheet)", 22 ~{RDY} (out) "R\D\Y\ is a logic low status output from the AD7708/AD7718. R\D\Y\ is low when valid data exists in the data register for the selected channel. This output returns high on completion of a read operation from the data (See Datasheet)", 23 DOUT (out) "Serial data output with serial data being read from the output shift register of the ADC. The output shift register can contain data from any of the on-chip data, calibration or control registers.", 24 DIN (in) "Serial Data Input with serial data being written to the input shift register on the AD7708/AD7718 Data in this shift register is transferred to the calibration or control registers within the ADC depending on the selection (See Datasheet)", 25 DGND (power) "Ground Reference Point for the Digital Circuitry.", 26 DVDD (power) "Digital Supply Voltage, 3 V or 5 V Nominal.", 27 XTAL2 "Output from the 32 kHz Crystal Oscillator or Resonator Inverter.", 28 XTAL1 "Input to the 32 kHz Crystal Oscillator or Resonator Inverter."

## AD7718BRU-REEL
designator U?
10 Channel 24-Bit Low Power Sigma-Delta Analog-to-Digital Converter with Serial, SPI Interface, 1.365KSPS, -40 to +85 degC, RU-28, Reel; Generic Part Number: AD7718; Manufacturer: Analog Devices; PartNumber: AD7718BRU-REEL; Resolution (Bits): 24; Channels: 10; Throughput Rate (SPS): 1.365K; Interface: Ser, SPI; DatasheetVersion: Rev.0; PackageVersion: 2005; PackageReference: RU-28; PackageDescription: 28-Lead Thin Shrink Small Outline Package [TSSOP]; Supplier 1: Digi-Key; Supplier Part Number 1: AD7718BRU-REEL-ND; Supplier 2: Newark; Supplier Part Number 2: 02H1713; Supplier 3: Mouser; Supplier Part Number 3: 584-AD7718BRU-R; RoHS: N; Packing: Reel; Mounting Technology: Surface Mount; Code_JEDEC: MO-153-AE; ComponentLink1Description: Manufacturer URL; ComponentLink1URL: http://www.analog.com/en/index.html; ComponentLink2Description: Datasheet; ComponentLink2URL: http://www.analog.com/static/imported-files/data_sheets/AD7708_7718.pdf; ComponentLink3Description: Package Specification; ComponentLink3URL: http://www.analog.com/static/imported-files/packages/249854663RU_28.pdf; ComponentLink4Description: Product URL; ComponentLink4URL: http://www.analog.com/en/analog-to-digital-converters/ad-converters/ad7718/products/product.html
footprint RU-28_N (TSOP, 28-Leads, Body 9.7x4.4mm, Pitch 0.65mm, IPC Medium Density)
footprint RU-28_L (TSOP, 28-Leads, Body 9.7x4.4mm, Pitch 0.65mm, IPC High Density)
footprint RU-28_M (TSOP, 28-Leads, Body 9.7x4.4mm, Pitch 0.65mm, IPC Low Density)
pins: 1 AIN7 (in) "Analog Input Channel 7. Programmable-gain analog input that can be used as a pseudodifferential input when used with AINCOM, or as the positive input of a fully-differential input pair when used with AIN8. (See ADC Control (See Datasheet)", 2 AIN8 (in) "Analog Input Channel 8. Programmable-gain analog input that can be used as a pseudodifferential input when used with AINCOM, or as the negative input of a fully-differential input pair when used with AIN7. (See ADC Control (See Datasheet)", 3 AVDD (power) "Analog Supply Voltage", 4 AGND (power) "Analog Ground", 5 REFIN1(-) (in) "Negative Reference Input. This reference input can lie anywhere between AGND and AVDD - 1 V.", 6 REFIN1(+) (in) "Positive reference input. REFIN(+) can lie anywhere between AVDD and AGND. The nominal reference voltage [REFIN(+)-REFIN(-)] is 2.5 V but the part is functional with a reference range from 1 V to AVDD.", 7 AIN1 (in) "Analog Input Channel 1. Programmable-gain analog input that can be used as a pseudodifferential input when used with AINCOM, or as the positive input of a fully-differential input pair when used with AIN2. (See ADC Control (See Datasheet)", 8 AIN2 (in) "Analog Input Channel 2. Programmable-gain analog input that can be used as a pseudodifferential input when used with AINCOM, or as the negative input of a fully-differential input pair when used with AIN1. (See ADC Control (See Datasheet)", 9 AIN3 (in) "Analog Input Channel 3. Programmable-gain analog input that can be used as a pseudodifferential input when used with AINCOM, or as the positive input of a fully-differential input pair when used with AIN4. (See ADC Control (See Datasheet)", 10 AIN4 (in) "Analog Input Channel 4. Programmable-gain analog input that can be used as a pseudodifferential input when used with AINCOM, or as the negative input of a fully-differential input pair when used with AIN3. (See ADC Control (See Datasheet)", 11 AIN5 (in) "Analog Input Channel 5. Programmable-gain analog input that can be used as a pseudodifferential input when used with AINCOM, or as the positive input of a fully-differential input pair when used with AIN6. (See ADC Control (See Datasheet)", 12 AINCOM (in) "All analog inputs are referenced to this input when configured in pseudo-differential input mode.", 13 REFIN2(+)/AIN9 (in) "Positive reference input/analog input. This input can be configured as a reference input with the same characteristics as REFIN1(+) or as an additional analog input. When configured as an analog input this pin provides a (See Datasheet)", 14 REFIN2(-)/AIN10 (in) "Negative reference input/analog input. This pin can be configured as a reference or analog input. When configured as a reference input it provides the negative reference input for REFIN2. When configured as an analog input (See Datasheet)", 15 AIN6 (in) "Analog Input Channel 6. Programmable-gain analog input that can be used as a pseudodifferential input when used with AINCOM, or as the negative input of a fully-differential input pair when used with AIN5. (See ADC Control (See Datasheet)", 16 P2 (io) "P2 can act as a general-purpose Input/Output bit referenced between AVDD and AGND. There is a weak pull-up to AVDD internally on this pin.", 17 AGND (power) "It is recommended that this pin be tied directly to AGND.", 18 P1 (io) "P1 can act as a general-purpose Input/Output bit referenced between AVDD and AGND. There is a weak pull-up to AVDD internally on this pin.", 19 ~{RESET} (in) "Digital input used to reset the ADC to its power-on-reset status. This pin has a weak pull-up internally to DVDD.", 20 SCLK (in) "Serial clock input for data transfers to and from the ADC. The SCLK has a Schmitt-trigger input making an opto-isolated interface more robust. The serial clock can be continuous with all data transmitted in a continuous (See Datasheet)", 21 ~{CS} (in) "Chip Select Input. This is an active low logic input used to select the AD7708/AD7718. C\S\ can be used to select the AD7708/AD7718 in systems with more than one device on the serial bus or as a frame synchronization signal (See Datasheet)", 22 ~{RDY} (out) "R\D\Y\ is a logic low status output from the AD7708/AD7718. R\D\Y\ is low when valid data exists in the data register for the selected channel. This output returns high on completion of a read operation from the data (See Datasheet)", 23 DOUT (out) "Serial data output with serial data being read from the output shift register of the ADC. The output shift register can contain data from any of the on-chip data, calibration or control registers.", 24 DIN (in) "Serial Data Input with serial data being written to the input shift register on the AD7708/AD7718 Data in this shift register is transferred to the calibration or control registers within the ADC depending on the selection (See Datasheet)", 25 DGND (power) "Ground Reference Point for the Digital Circuitry.", 26 DVDD (power) "Digital Supply Voltage, 3 V or 5 V Nominal.", 27 XTAL2 "Output from the 32 kHz Crystal Oscillator or Resonator Inverter.", 28 XTAL1 "Input to the 32 kHz Crystal Oscillator or Resonator Inverter."